# Altium footprint library M3螺丝.PcbLib: 1 footprints
Each footprint in its own frame and in the unit in brackets; x right, y up, seen from the top. Pads: shape width x height; smd on the part's side, far side on the other; paste and mask are expansions set on the pad; w line width, h text height; cw(c..) or ccw(c..) is an arc to the next point about the centre after c.
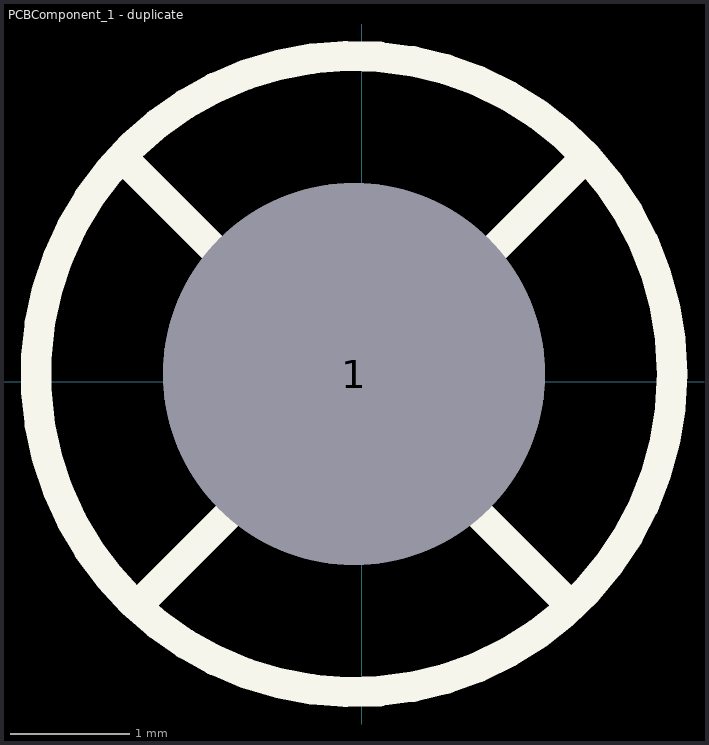
[diagram p0: the footprint, top view; thin cyan lines are the x and y axes]

## PCBComponent_1 - duplicate [mil]
pads (1):
  round 126 / inner round 60 / far side round 60 hole 126 paste+0 mask+4: 1(-2.5,2.5)
Top Overlay:
  circle w10: c-2.5,2.5 r105
  lines w10: -77.5,72.5 67.5,-72.5 ; -72.5,-72.5 72.5,72.5